# Altium schematic symbol library crystal_2pin.SchLib: 1 symbol
Pins are listed as number, name and electrical type; pins without a type are passive.

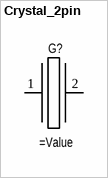
[diagram p0: symbol Crystal_2pin]

## Crystal_2pin
designator G?
Value: =Value
pins: 1, 2